# Altium footprint library SOT-353.PcbLib: 1 footprints
Each footprint in its own frame and in the unit in brackets; x right, y up, seen from the top. Pads: shape width x height; smd on the part's side, far side on the other; paste and mask are expansions set on the pad; w line width, h text height; cw(c..) or ccw(c..) is an arc to the next point about the centre after c.
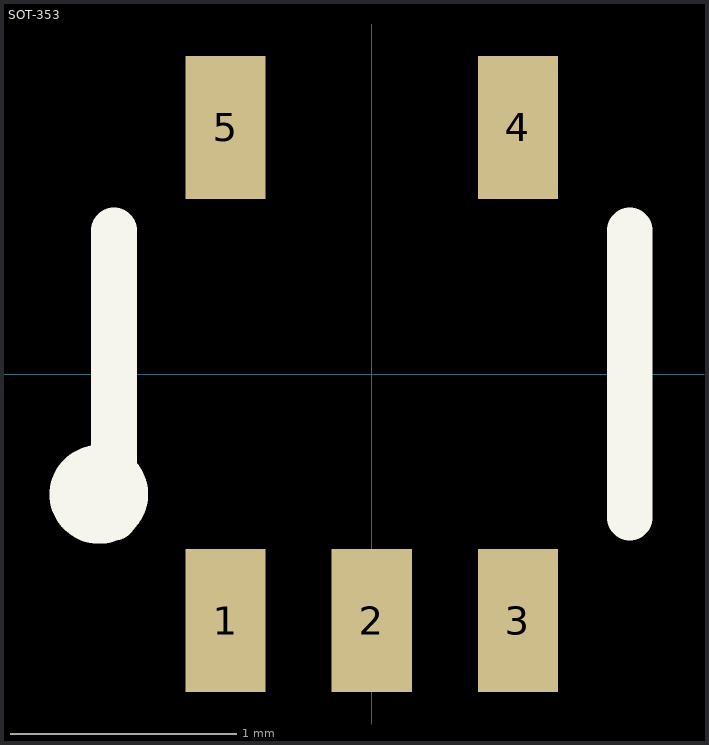
[diagram p0: the footprint, top view; thin cyan lines are the x and y axes]

## SOT-353 [mil]
pads (5):
  rect 14x25 smd: 1(-25.5,-43) 2(0,-43) 3(25.5,-43) 4(25.5,43) 5(-25.5,43)
Top Overlay:
  circle w10: c-47.61,-21 r3.61
  lines w8: -45,-25 -45,25 ; 45,-25 45,25
3D body: height 39.37, standoff 0, extent -41.34,-45.28 41.34,45.27